# Altium schematic symbol library Diode.SchLib: 762 symbols (part 6 of 6)
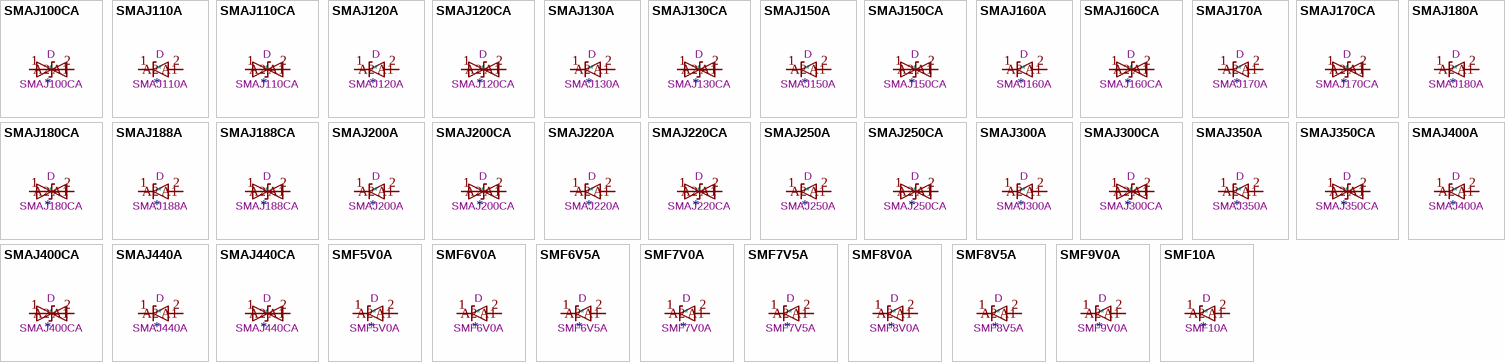
[diagram p25: symbols SMAJ100CA to SMF10A]

## SMAJ200CA
designator *  value SMAJ200CA  Reference: D
400W bidirectional Transient Voltage Suppressor, 200.0Vr, SMA(DO-214AC); ki_keywords: bidirectional diode TVS voltage suppressor; ki_fp_filters: D*SMA*; Footprint: Diode_SMD:D_SMA; Datasheet: https://www.littelfuse.com/media?resourcetype=datasheets&itemid=75e32973-b177-4ee3-a0ff-cedaf1abdb93&filename=smaj-datasheet; Description_: 400W bidirectional Transient Voltage Suppressor, 200.0Vr, SMA(DO-214AC)
pins: 1 A1, 2 A2

## SMAJ220A
designator *  value SMAJ220A  Reference: D
400W unidirectional Transient Voltage Suppressor, 220.0Vr, SMA(DO-214AC); ki_keywords: unidirectional diode TVS voltage suppressor; ki_fp_filters: D*SMA*; Footprint: Diode_SMD:D_SMA; Datasheet: https://www.littelfuse.com/media?resourcetype=datasheets&itemid=75e32973-b177-4ee3-a0ff-cedaf1abdb93&filename=smaj-datasheet; Description_: 400W unidirectional Transient Voltage Suppressor, 220.0Vr, SMA(DO-214AC)
pins: 1 A1, 2 A2

## SMAJ220CA
designator *  value SMAJ220CA  Reference: D
600W bidirectional Transient Voltage Suppressor, 220.0Vr, SMA(DO-214AC); ki_keywords: bidirectional diode TVS voltage suppressor; ki_fp_filters: D*SMA*; Footprint: Diode_SMD:D_SMA; Datasheet: https://www.littelfuse.com/media?resourcetype=datasheets&itemid=75e32973-b177-4ee3-a0ff-cedaf1abdb93&filename=smaj-datasheet; Description_: 600W bidirectional Transient Voltage Suppressor, 220.0Vr, SMA(DO-214AC)
pins: 1 A1, 2 A2

## SMAJ250A
designator *  value SMAJ250A  Reference: D
400W unidirectional Transient Voltage Suppressor, 250.0Vr, SMA(DO-214AC); ki_keywords: unidirectional diode TVS voltage suppressor; ki_fp_filters: D*SMA*; Footprint: Diode_SMD:D_SMA; Datasheet: https://www.littelfuse.com/media?resourcetype=datasheets&itemid=75e32973-b177-4ee3-a0ff-cedaf1abdb93&filename=smaj-datasheet; Description_: 400W unidirectional Transient Voltage Suppressor, 250.0Vr, SMA(DO-214AC)
pins: 1 A1, 2 A2

## SMAJ250CA
designator *  value SMAJ250CA  Reference: D
600W bidirectional Transient Voltage Suppressor, 250.0Vr, SMA(DO-214AC); ki_keywords: bidirectional diode TVS voltage suppressor; ki_fp_filters: D*SMA*; Footprint: Diode_SMD:D_SMA; Datasheet: https://www.littelfuse.com/media?resourcetype=datasheets&itemid=75e32973-b177-4ee3-a0ff-cedaf1abdb93&filename=smaj-datasheet; Description_: 600W bidirectional Transient Voltage Suppressor, 250.0Vr, SMA(DO-214AC)
pins: 1 A1, 2 A2

## SMAJ300A
designator *  value SMAJ300A  Reference: D
600W unidirectional Transient Voltage Suppressor, 300.0Vr, SMA(DO-214AC); ki_keywords: unidirectional diode TVS voltage suppressor; ki_fp_filters: D*SMA*; Footprint: Diode_SMD:D_SMA; Datasheet: https://www.littelfuse.com/media?resourcetype=datasheets&itemid=75e32973-b177-4ee3-a0ff-cedaf1abdb93&filename=smaj-datasheet; Description_: 600W unidirectional Transient Voltage Suppressor, 300.0Vr, SMA(DO-214AC)
pins: 1 A1, 2 A2

## SMAJ300CA
designator *  value SMAJ300CA  Reference: D
600W bidirectional Transient Voltage Suppressor, 300.0Vr, SMA(DO-214AC); ki_keywords: bidirectional diode TVS voltage suppressor; ki_fp_filters: D*SMA*; Footprint: Diode_SMD:D_SMA; Datasheet: https://www.littelfuse.com/media?resourcetype=datasheets&itemid=75e32973-b177-4ee3-a0ff-cedaf1abdb93&filename=smaj-datasheet; Description_: 600W bidirectional Transient Voltage Suppressor, 300.0Vr, SMA(DO-214AC)
pins: 1 A1, 2 A2

## SMAJ350A
designator *  value SMAJ350A  Reference: D
600W unidirectional Transient Voltage Suppressor, 350.0Vr, SMA(DO-214AC); ki_keywords: unidirectional diode TVS voltage suppressor; ki_fp_filters: D*SMA*; Footprint: Diode_SMD:D_SMA; Datasheet: https://www.littelfuse.com/media?resourcetype=datasheets&itemid=75e32973-b177-4ee3-a0ff-cedaf1abdb93&filename=smaj-datasheet; Description_: 600W unidirectional Transient Voltage Suppressor, 350.0Vr, SMA(DO-214AC)
pins: 1 A1, 2 A2

## SMAJ350CA
designator *  value SMAJ350CA  Reference: D
600W bidirectional Transient Voltage Suppressor, 350.0Vr, SMA(DO-214AC); ki_keywords: bidirectional diode TVS voltage suppressor; ki_fp_filters: D*SMA*; Footprint: Diode_SMD:D_SMA; Datasheet: https://www.littelfuse.com/media?resourcetype=datasheets&itemid=75e32973-b177-4ee3-a0ff-cedaf1abdb93&filename=smaj-datasheet; Description_: 600W bidirectional Transient Voltage Suppressor, 350.0Vr, SMA(DO-214AC)
pins: 1 A1, 2 A2

## SMAJ400A
designator *  value SMAJ400A  Reference: D
600W unidirectional Transient Voltage Suppressor, 400.0Vr, SMA(DO-214AC); ki_keywords: unidirectional diode TVS voltage suppressor; ki_fp_filters: D*SMA*; Footprint: Diode_SMD:D_SMA; Datasheet: https://www.littelfuse.com/media?resourcetype=datasheets&itemid=75e32973-b177-4ee3-a0ff-cedaf1abdb93&filename=smaj-datasheet; Description_: 600W unidirectional Transient Voltage Suppressor, 400.0Vr, SMA(DO-214AC)
pins: 1 A1, 2 A2

## SMAJ400CA
designator *  value SMAJ400CA  Reference: D
600W bidirectional Transient Voltage Suppressor, 400.0Vr, SMA(DO-214AC); ki_keywords: bidirectional diode TVS voltage suppressor; ki_fp_filters: D*SMA*; Footprint: Diode_SMD:D_SMA; Datasheet: https://www.littelfuse.com/media?resourcetype=datasheets&itemid=75e32973-b177-4ee3-a0ff-cedaf1abdb93&filename=smaj-datasheet; Description_: 600W bidirectional Transient Voltage Suppressor, 400.0Vr, SMA(DO-214AC)
pins: 1 A1, 2 A2

## SMAJ440A
designator *  value SMAJ440A  Reference: D
600W unidirectional Transient Voltage Suppressor, 440.0Vr, SMA(DO-214AC); ki_keywords: unidirectional diode TVS voltage suppressor; ki_fp_filters: D*SMA*; Footprint: Diode_SMD:D_SMA; Datasheet: https://www.littelfuse.com/media?resourcetype=datasheets&itemid=75e32973-b177-4ee3-a0ff-cedaf1abdb93&filename=smaj-datasheet; Description_: 600W unidirectional Transient Voltage Suppressor, 440.0Vr, SMA(DO-214AC)
pins: 1 A1, 2 A2

## SMAJ440CA
designator *  value SMAJ440CA  Reference: D
600W bidirectional Transient Voltage Suppressor, 440.0Vr, SMA(DO-214AC); ki_keywords: bidirectional diode TVS voltage suppressor; ki_fp_filters: D*SMA*; Footprint: Diode_SMD:D_SMA; Datasheet: https://www.littelfuse.com/media?resourcetype=datasheets&itemid=75e32973-b177-4ee3-a0ff-cedaf1abdb93&filename=smaj-datasheet; Description_: 600W bidirectional Transient Voltage Suppressor, 440.0Vr, SMA(DO-214AC)
pins: 1 A1, 2 A2

## SMF5V0A
designator *  value SMF5V0A  Reference: D
200W unidirectional Transil Transient Voltage Suppressor, 5Vrwm, SMF; ki_keywords: diode TVS voltage suppressor; ki_fp_filters: D*SMF*; Footprint: Diode_SMD:D_SMF; Datasheet: https://www.vishay.com/doc?85881; Description_: 200W unidirectional Transil Transient Voltage Suppressor, 5Vrwm, SMF
pins: 1 A1, 2 A2

## SMF6V0A
designator *  value SMF6V0A  Reference: D
200W unidirectional Transil Transient Voltage Suppressor, 6Vrwm, SMF; ki_keywords: diode TVS voltage suppressor; ki_fp_filters: D*SMF*; Footprint: Diode_SMD:D_SMF; Datasheet: https://www.vishay.com/doc?85881; Description_: 200W unidirectional Transil Transient Voltage Suppressor, 6Vrwm, SMF
pins: 1 A1, 2 A2

## SMF6V5A
designator *  value SMF6V5A  Reference: D
200W unidirectional Transil Transient Voltage Suppressor, 6.5Vrwm, SMF; ki_keywords: diode TVS voltage suppressor; ki_fp_filters: D*SMF*; Footprint: Diode_SMD:D_SMF; Datasheet: https://www.vishay.com/doc?85881; Description_: 200W unidirectional Transil Transient Voltage Suppressor, 6.5Vrwm, SMF
pins: 1 A1, 2 A2

## SMF7V0A
designator *  value SMF7V0A  Reference: D
200W unidirectional Transil Transient Voltage Suppressor, 7Vrwm, SMF; ki_keywords: diode TVS voltage suppressor; ki_fp_filters: D*SMF*; Footprint: Diode_SMD:D_SMF; Datasheet: https://www.vishay.com/doc?85881; Description_: 200W unidirectional Transil Transient Voltage Suppressor, 7Vrwm, SMF
pins: 1 A1, 2 A2

## SMF7V5A
designator *  value SMF7V5A  Reference: D
200W unidirectional Transil Transient Voltage Suppressor, 7.5Vrwm, SMF; ki_keywords: diode TVS voltage suppressor; ki_fp_filters: D*SMF*; Footprint: Diode_SMD:D_SMF; Datasheet: https://www.vishay.com/doc?85881; Description_: 200W unidirectional Transil Transient Voltage Suppressor, 7.5Vrwm, SMF
pins: 1 A1, 2 A2

## SMF8V0A
designator *  value SMF8V0A  Reference: D
200W unidirectional Transil Transient Voltage Suppressor, 8Vrwm, SMF; ki_keywords: diode TVS voltage suppressor; ki_fp_filters: D*SMF*; Footprint: Diode_SMD:D_SMF; Datasheet: https://www.vishay.com/doc?85881; Description_: 200W unidirectional Transil Transient Voltage Suppressor, 8Vrwm, SMF
pins: 1 A1, 2 A2

## SMF8V5A
designator *  value SMF8V5A  Reference: D
200W unidirectional Transil Transient Voltage Suppressor, 8.5Vrwm, SMF; ki_keywords: diode TVS voltage suppressor; ki_fp_filters: D*SMF*; Footprint: Diode_SMD:D_SMF; Datasheet: https://www.vishay.com/doc?85881; Description_: 200W unidirectional Transil Transient Voltage Suppressor, 8.5Vrwm, SMF
pins: 1 A1, 2 A2

## SMF9V0A
designator *  value SMF9V0A  Reference: D
200W unidirectional Transil Transient Voltage Suppressor, 9Vrwm, SMF; ki_keywords: diode TVS voltage suppressor; ki_fp_filters: D*SMF*; Footprint: Diode_SMD:D_SMF; Datasheet: https://www.vishay.com/doc?85881; Description_: 200W unidirectional Transil Transient Voltage Suppressor, 9Vrwm, SMF
pins: 1 A1, 2 A2

## SMF10A
designator *  value SMF10A  Reference: D
200W unidirectional Transil Transient Voltage Suppressor, 10Vrwm, SMF; ki_keywords: diode TVS voltage suppressor; ki_fp_filters: D*SMF*; Footprint: Diode_SMD:D_SMF; Datasheet: https://www.vishay.com/doc?85881; Description_: 200W unidirectional Transil Transient Voltage Suppressor, 10Vrwm, SMF
pins: 1 A1, 2 A2

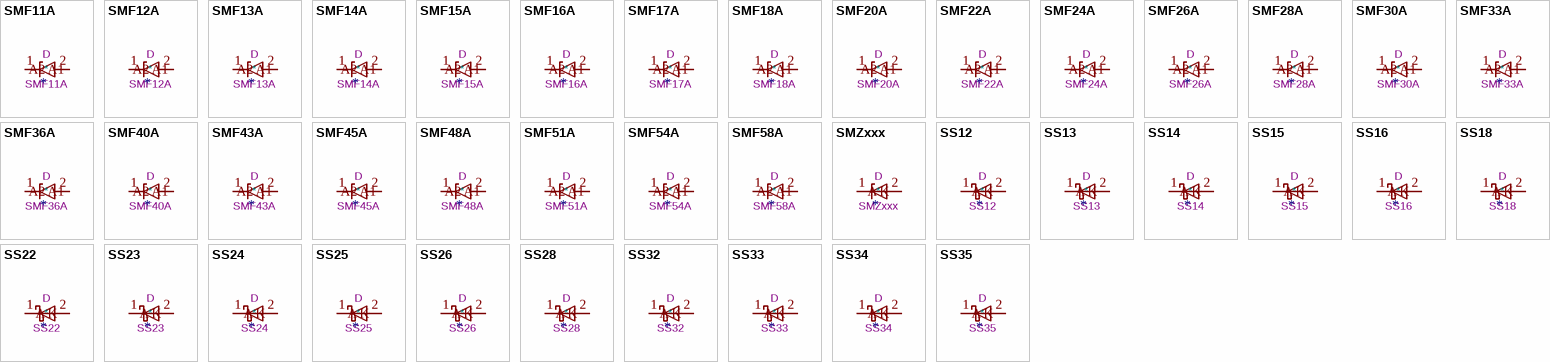
[diagram p18: symbols SMF11A to SS35]

## SMF11A
designator *  value SMF11A  Reference: D
200W unidirectional Transil Transient Voltage Suppressor, 11Vrwm, SMF; ki_keywords: diode TVS voltage suppressor; ki_fp_filters: D*SMF*; Footprint: Diode_SMD:D_SMF; Datasheet: https://www.vishay.com/doc?85881; Description_: 200W unidirectional Transil Transient Voltage Suppressor, 11Vrwm, SMF
pins: 1 A1, 2 A2

## SMF12A
designator *  value SMF12A  Reference: D
200W unidirectional Transil Transient Voltage Suppressor, 12Vrwm, SMF; ki_keywords: diode TVS voltage suppressor; ki_fp_filters: D*SMF*; Footprint: Diode_SMD:D_SMF; Datasheet: https://www.vishay.com/doc?85881; Description_: 200W unidirectional Transil Transient Voltage Suppressor, 12Vrwm, SMF
pins: 1 A1, 2 A2

## SMF13A
designator *  value SMF13A  Reference: D
200W unidirectional Transil Transient Voltage Suppressor, 13Vrwm, SMF; ki_keywords: diode TVS voltage suppressor; ki_fp_filters: D*SMF*; Footprint: Diode_SMD:D_SMF; Datasheet: https://www.vishay.com/doc?85881; Description_: 200W unidirectional Transil Transient Voltage Suppressor, 13Vrwm, SMF
pins: 1 A1, 2 A2

## SMF14A
designator *  value SMF14A  Reference: D
200W unidirectional Transil Transient Voltage Suppressor, 14Vrwm, SMF; ki_keywords: diode TVS voltage suppressor; ki_fp_filters: D*SMF*; Footprint: Diode_SMD:D_SMF; Datasheet: https://www.vishay.com/doc?85881; Description_: 200W unidirectional Transil Transient Voltage Suppressor, 14Vrwm, SMF
pins: 1 A1, 2 A2

## SMF15A
designator *  value SMF15A  Reference: D
200W unidirectional Transil Transient Voltage Suppressor, 15Vrwm, SMF; ki_keywords: diode TVS voltage suppressor; ki_fp_filters: D*SMF*; Footprint: Diode_SMD:D_SMF; Datasheet: https://www.vishay.com/doc?85881; Description_: 200W unidirectional Transil Transient Voltage Suppressor, 15Vrwm, SMF
pins: 1 A1, 2 A2

## SMF16A
designator *  value SMF16A  Reference: D
200W unidirectional Transil Transient Voltage Suppressor, 16Vrwm, SMF; ki_keywords: diode TVS voltage suppressor; ki_fp_filters: D*SMF*; Footprint: Diode_SMD:D_SMF; Datasheet: https://www.vishay.com/doc?85881; Description_: 200W unidirectional Transil Transient Voltage Suppressor, 16Vrwm, SMF
pins: 1 A1, 2 A2

## SMF17A
designator *  value SMF17A  Reference: D
200W unidirectional Transil Transient Voltage Suppressor, 17Vrwm, SMF; ki_keywords: diode TVS voltage suppressor; ki_fp_filters: D*SMF*; Footprint: Diode_SMD:D_SMF; Datasheet: https://www.vishay.com/doc?85881; Description_: 200W unidirectional Transil Transient Voltage Suppressor, 17Vrwm, SMF
pins: 1 A1, 2 A2

## SMF18A
designator *  value SMF18A  Reference: D
200W unidirectional Transil Transient Voltage Suppressor, 18Vrwm, SMF; ki_keywords: diode TVS voltage suppressor; ki_fp_filters: D*SMF*; Footprint: Diode_SMD:D_SMF; Datasheet: https://www.vishay.com/doc?85881; Description_: 200W unidirectional Transil Transient Voltage Suppressor, 18Vrwm, SMF
pins: 1 A1, 2 A2

## SMF20A
designator *  value SMF20A  Reference: D
200W unidirectional Transil Transient Voltage Suppressor, 20Vrwm, SMF; ki_keywords: diode TVS voltage suppressor; ki_fp_filters: D*SMF*; Footprint: Diode_SMD:D_SMF; Datasheet: https://www.vishay.com/doc?85881; Description_: 200W unidirectional Transil Transient Voltage Suppressor, 20Vrwm, SMF
pins: 1 A1, 2 A2

## SMF22A
designator *  value SMF22A  Reference: D
200W unidirectional Transil Transient Voltage Suppressor, 22Vrwm, SMF; ki_keywords: diode TVS voltage suppressor; ki_fp_filters: D*SMF*; Footprint: Diode_SMD:D_SMF; Datasheet: https://www.vishay.com/doc?85881; Description_: 200W unidirectional Transil Transient Voltage Suppressor, 22Vrwm, SMF
pins: 1 A1, 2 A2

## SMF24A
designator *  value SMF24A  Reference: D
200W unidirectional Transil Transient Voltage Suppressor, 24Vrwm, SMF; ki_keywords: diode TVS voltage suppressor; ki_fp_filters: D*SMF*; Footprint: Diode_SMD:D_SMF; Datasheet: https://www.vishay.com/doc?85881; Description_: 200W unidirectional Transil Transient Voltage Suppressor, 24Vrwm, SMF
pins: 1 A1, 2 A2

## SMF26A
designator *  value SMF26A  Reference: D
200W unidirectional Transil Transient Voltage Suppressor, 26Vrwm, SMF; ki_keywords: diode TVS voltage suppressor; ki_fp_filters: D*SMF*; Footprint: Diode_SMD:D_SMF; Datasheet: https://www.vishay.com/doc?85881; Description_: 200W unidirectional Transil Transient Voltage Suppressor, 26Vrwm, SMF
pins: 1 A1, 2 A2

## SMF28A
designator *  value SMF28A  Reference: D
200W unidirectional Transil Transient Voltage Suppressor, 28Vrwm, SMF; ki_keywords: diode TVS voltage suppressor; ki_fp_filters: D*SMF*; Footprint: Diode_SMD:D_SMF; Datasheet: https://www.vishay.com/doc?85881; Description_: 200W unidirectional Transil Transient Voltage Suppressor, 28Vrwm, SMF
pins: 1 A1, 2 A2

## SMF30A
designator *  value SMF30A  Reference: D
200W unidirectional Transil Transient Voltage Suppressor, 30Vrwm, SMF; ki_keywords: diode TVS voltage suppressor; ki_fp_filters: D*SMF*; Footprint: Diode_SMD:D_SMF; Datasheet: https://www.vishay.com/doc?85881; Description_: 200W unidirectional Transil Transient Voltage Suppressor, 30Vrwm, SMF
pins: 1 A1, 2 A2

## SMF33A
designator *  value SMF33A  Reference: D
200W unidirectional Transil Transient Voltage Suppressor, 33Vrwm, SMF; ki_keywords: diode TVS voltage suppressor; ki_fp_filters: D*SMF*; Footprint: Diode_SMD:D_SMF; Datasheet: https://www.vishay.com/doc?85881; Description_: 200W unidirectional Transil Transient Voltage Suppressor, 33Vrwm, SMF
pins: 1 A1, 2 A2

## SMF36A
designator *  value SMF36A  Reference: D
200W unidirectional Transil Transient Voltage Suppressor, 36Vrwm, SMF; ki_keywords: diode TVS voltage suppressor; ki_fp_filters: D*SMF*; Footprint: Diode_SMD:D_SMF; Datasheet: https://www.vishay.com/doc?85881; Description_: 200W unidirectional Transil Transient Voltage Suppressor, 36Vrwm, SMF
pins: 1 A1, 2 A2

## SMF40A
designator *  value SMF40A  Reference: D
200W unidirectional Transil Transient Voltage Suppressor, 40Vrwm, SMF; ki_keywords: diode TVS voltage suppressor; ki_fp_filters: D*SMF*; Footprint: Diode_SMD:D_SMF; Datasheet: https://www.vishay.com/doc?85881; Description_: 200W unidirectional Transil Transient Voltage Suppressor, 40Vrwm, SMF
pins: 1 A1, 2 A2

## SMF43A
designator *  value SMF43A  Reference: D
200W unidirectional Transil Transient Voltage Suppressor, 43Vrwm, SMF; ki_keywords: diode TVS voltage suppressor; ki_fp_filters: D*SMF*; Footprint: Diode_SMD:D_SMF; Datasheet: https://www.vishay.com/doc?85881; Description_: 200W unidirectional Transil Transient Voltage Suppressor, 43Vrwm, SMF
pins: 1 A1, 2 A2

## SMF45A
designator *  value SMF45A  Reference: D
200W unidirectional Transil Transient Voltage Suppressor, 45Vrwm, SMF; ki_keywords: diode TVS voltage suppressor; ki_fp_filters: D*SMF*; Footprint: Diode_SMD:D_SMF; Datasheet: https://www.vishay.com/doc?85881; Description_: 200W unidirectional Transil Transient Voltage Suppressor, 45Vrwm, SMF
pins: 1 A1, 2 A2

## SMF48A
designator *  value SMF48A  Reference: D
200W unidirectional Transil Transient Voltage Suppressor, 48Vrwm, SMF; ki_keywords: diode TVS voltage suppressor; ki_fp_filters: D*SMF*; Footprint: Diode_SMD:D_SMF; Datasheet: https://www.vishay.com/doc?85881; Description_: 200W unidirectional Transil Transient Voltage Suppressor, 48Vrwm, SMF
pins: 1 A1, 2 A2

## SMF51A
designator *  value SMF51A  Reference: D
200W unidirectional Transil Transient Voltage Suppressor, 51Vrwm, SMF; ki_keywords: diode TVS voltage suppressor; ki_fp_filters: D*SMF*; Footprint: Diode_SMD:D_SMF; Datasheet: https://www.vishay.com/doc?85881; Description_: 200W unidirectional Transil Transient Voltage Suppressor, 51Vrwm, SMF
pins: 1 A1, 2 A2

## SMF54A
designator *  value SMF54A  Reference: D
200W unidirectional Transil Transient Voltage Suppressor, 54Vrwm, SMF; ki_keywords: diode TVS voltage suppressor; ki_fp_filters: D*SMF*; Footprint: Diode_SMD:D_SMF; Datasheet: https://www.vishay.com/doc?85881; Description_: 200W unidirectional Transil Transient Voltage Suppressor, 54Vrwm, SMF
pins: 1 A1, 2 A2

## SMF58A
designator *  value SMF58A  Reference: D
200W unidirectional Transil Transient Voltage Suppressor, 58Vrwm, SMF; ki_keywords: diode TVS voltage suppressor; ki_fp_filters: D*SMF*; Footprint: Diode_SMD:D_SMF; Datasheet: https://www.vishay.com/doc?85881; Description_: 200W unidirectional Transil Transient Voltage Suppressor, 58Vrwm, SMF
pins: 1 A1, 2 A2

## SMZxxx
designator *  value SMZxxx  Reference: D
2000mW Zener Diode, MELF; ki_fp_filters: D*MELF*; Footprint: Diode_SMD:D_MELF; Datasheet: https://diotec.com/tl_files/diotec/files/pdf/datasheets/smz1.pdf; Description_: 2000mW Zener Diode, MELF; ki_keywords: zener diode
pins: 1 K, 2 A

## SS12
designator *  value SS12  Reference: D
20V 1A Schottky Diode, SMA; ki_keywords: diode Schottky; ki_fp_filters: D*SMA*; Footprint: Diode_SMD:D_SMA; Datasheet: https://www.vishay.com/docs/88746/ss12.pdf; Description_: 20V 1A Schottky Diode, SMA
pins: 1 K, 2 A

## SS13
designator *  value SS13  Reference: D
30V 1A Schottky Diode, SMA; ki_keywords: diode Schottky; ki_fp_filters: D*SMA*; Footprint: Diode_SMD:D_SMA; Datasheet: https://www.vishay.com/docs/88746/ss12.pdf; Description_: 30V 1A Schottky Diode, SMA
pins: 1 K, 2 A

## SS14
designator *  value SS14  Reference: D
40V 1A Schottky Diode, SMA; ki_keywords: diode Schottky; ki_fp_filters: D*SMA*; Footprint: Diode_SMD:D_SMA; Datasheet: https://www.vishay.com/docs/88746/ss12.pdf; Description_: 40V 1A Schottky Diode, SMA
pins: 1 K, 2 A

## SS15
designator *  value SS15  Reference: D
50V 1A Schottky Diode, SMA; ki_keywords: diode Schottky; ki_fp_filters: D*SMA*; Footprint: Diode_SMD:D_SMA; Datasheet: https://www.vishay.com/docs/88746/ss12.pdf; Description_: 50V 1A Schottky Diode, SMA
pins: 1 K, 2 A

## SS16
designator *  value SS16  Reference: D
60V 1A Schottky Diode, SMA; ki_keywords: diode Schottky; ki_fp_filters: D*SMA*; Footprint: Diode_SMD:D_SMA; Datasheet: https://www.vishay.com/docs/88746/ss12.pdf; Description_: 60V 1A Schottky Diode, SMA
pins: 1 K, 2 A

## SS18
designator *  value SS18  Reference: D
80V 1A Schottky Diode, SMA; ki_keywords: diode Schottky; ki_fp_filters: D*SMA*; Footprint: Diode_SMD:D_SMA; Datasheet: https://www.smc-diodes.com/propdf/SS12-SS110%20N0229%20REV.C.pdf; Description_: 80V 1A Schottky Diode, SMA
pins: 1 K, 2 A

## SS22
designator *  value SS22  Reference: D
20V 2A Schottky Diode, SMA; ki_keywords: diode Schottky; ki_fp_filters: D*SMA*; Footprint: Diode_SMD:D_SMA; Datasheet: https://www.vishay.com/docs/88748/ss22.pdf; Description_: 20V 2A Schottky Diode, SMA
pins: 1 K, 2 A

## SS23
designator *  value SS23  Reference: D
30V 2A Schottky Diode, SMA; ki_keywords: diode Schottky; ki_fp_filters: D*SMA*; Footprint: Diode_SMD:D_SMA; Datasheet: https://www.vishay.com/docs/88748/ss22.pdf; Description_: 30V 2A Schottky Diode, SMA
pins: 1 K, 2 A

## SS24
designator *  value SS24  Reference: D
40V 2A Schottky Diode, SMA; ki_keywords: diode Schottky; ki_fp_filters: D*SMA*; Footprint: Diode_SMD:D_SMA; Datasheet: https://www.vishay.com/docs/88748/ss22.pdf; Description_: 40V 2A Schottky Diode, SMA
pins: 1 K, 2 A

## SS25
designator *  value SS25  Reference: D
50V 2A Schottky Diode, SMA; ki_keywords: diode Schottky; ki_fp_filters: D*SMA*; Footprint: Diode_SMD:D_SMA; Datasheet: https://www.vishay.com/docs/88748/ss22.pdf; Description_: 50V 2A Schottky Diode, SMA
pins: 1 K, 2 A

## SS26
designator *  value SS26  Reference: D
60V 2A Schottky Diode, SMA; ki_keywords: diode Schottky; ki_fp_filters: D*SMA*; Footprint: Diode_SMD:D_SMA; Datasheet: https://www.vishay.com/docs/88748/ss22.pdf; Description_: 60V 2A Schottky Diode, SMA
pins: 1 K, 2 A

## SS28
designator *  value SS28  Reference: D
80V 2A Schottky Diode, SMA; ki_keywords: diode Schottky; ki_fp_filters: D*SMA*; Footprint: Diode_SMD:D_SMA; Datasheet: https://www.wontop.com/uploadfiles/56/sort_excel/pdf/ss22.pdf; Description_: 80V 2A Schottky Diode, SMA
pins: 1 K, 2 A

## SS32
designator *  value SS32  Reference: D
20V 3A Schottky Diode, SMA; ki_keywords: diode Schottky; ki_fp_filters: D*SMA*; Footprint: Diode_SMD:D_SMA; Datasheet: https://www.vishay.com/docs/88751/ss32.pdf; Description_: 20V 3A Schottky Diode, SMA
pins: 1 K, 2 A

## SS33
designator *  value SS33  Reference: D
30V 3A Schottky Diode, SMA; ki_keywords: diode Schottky; ki_fp_filters: D*SMA*; Footprint: Diode_SMD:D_SMA; Datasheet: https://www.vishay.com/docs/88751/ss32.pdf; Description_: 30V 3A Schottky Diode, SMA
pins: 1 K, 2 A

## SS34
designator *  value SS34  Reference: D
40V 3A Schottky Diode, SMA; ki_keywords: diode Schottky; ki_fp_filters: D*SMA*; Footprint: Diode_SMD:D_SMA; Datasheet: https://www.vishay.com/docs/88751/ss32.pdf; Description_: 40V 3A Schottky Diode, SMA
pins: 1 K, 2 A

## SS35
designator *  value SS35  Reference: D
50V 3A Schottky Diode, SMA; ki_keywords: diode Schottky; ki_fp_filters: D*SMA*; Footprint: Diode_SMD:D_SMA; Datasheet: https://www.vishay.com/docs/88751/ss32.pdf; Description_: 50V 3A Schottky Diode, SMA
pins: 1 K, 2 A

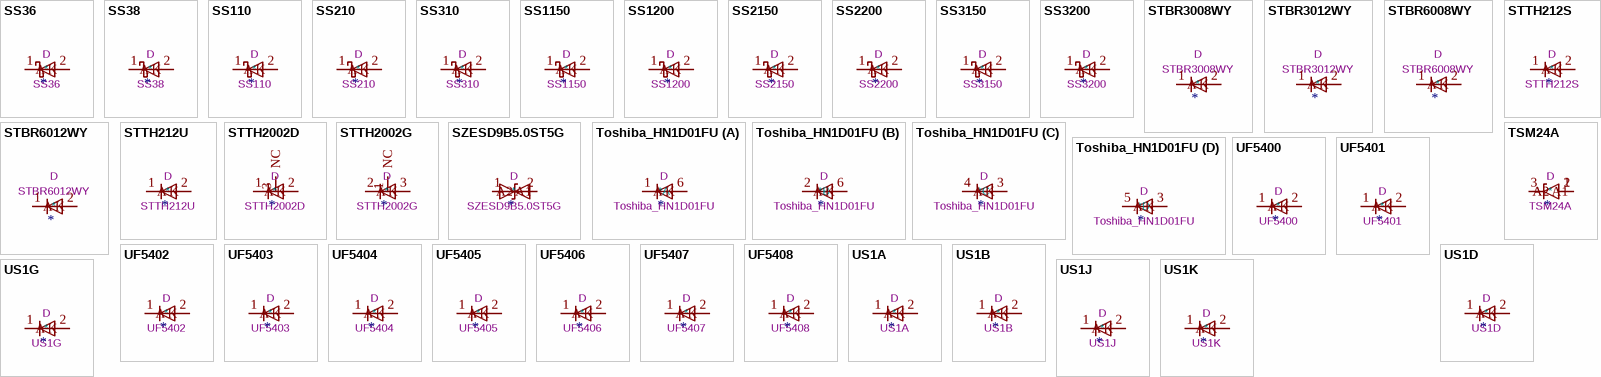
[diagram p19: symbols SS36 to US1K]

## SS36
designator *  value SS36  Reference: D
60V 3A Schottky Diode, SMA; ki_keywords: diode Schottky; ki_fp_filters: D*SMA*; Footprint: Diode_SMD:D_SMA; Datasheet: https://www.vishay.com/docs/88751/ss32.pdf; Description_: 60V 3A Schottky Diode, SMA
pins: 1 K, 2 A

## SS38
designator *  value SS38  Reference: D
80V 3A Schottky Diode, SMA; ki_keywords: diode Schottky; ki_fp_filters: D*SMA*; Footprint: Diode_SMD:D_SMA; Datasheet: https://www.microdiode.com/uploadfiles//PDF/SS32-THRU-SS3200-SMA.pdf; Description_: 80V 3A Schottky Diode, SMA
pins: 1 K, 2 A

## SS110
designator *  value SS110  Reference: D
100V 1A Schottky Diode, SMA; ki_keywords: diode Schottky; ki_fp_filters: D*SMA*; Footprint: Diode_SMD:D_SMA; Datasheet: https://www.smc-diodes.com/propdf/SS12-SS110%20N0229%20REV.C.pdf; Description_: 100V 1A Schottky Diode, SMA
pins: 1 K, 2 A

## SS210
designator *  value SS210  Reference: D
100V 2A Schottky Diode, SMA; ki_keywords: diode Schottky; ki_fp_filters: D*SMA*; Footprint: Diode_SMD:D_SMA; Datasheet: https://www.wontop.com/uploadfiles/56/sort_excel/pdf/ss22.pdf; Description_: 100V 2A Schottky Diode, SMA
pins: 1 K, 2 A

## SS310
designator *  value SS310  Reference: D
100V 3A Schottky Diode, SMA; ki_keywords: diode Schottky; ki_fp_filters: D*SMA*; Footprint: Diode_SMD:D_SMA; Datasheet: https://www.microdiode.com/uploadfiles//PDF/SS32-THRU-SS3200-SMA.pdf; Description_: 100V 3A Schottky Diode, SMA
pins: 1 K, 2 A

## SS1150
designator *  value SS1150  Reference: D
150V 1A Schottky Diode, SMA; ki_keywords: diode Schottky; ki_fp_filters: D*SMA*; Footprint: Diode_SMD:D_SMA; Datasheet: https://www.wontop.com/uploadfiles/56/sort_excel/pdf/ss1150.pdf; Description_: 150V 1A Schottky Diode, SMA
pins: 1 K, 2 A

## SS1200
designator *  value SS1200  Reference: D
200V 1A Schottky Diode, SMA; ki_keywords: diode Schottky; ki_fp_filters: D*SMA*; Footprint: Diode_SMD:D_SMA; Datasheet: https://www.wontop.com/uploadfiles/56/sort_excel/pdf/ss1150.pdf; Description_: 200V 1A Schottky Diode, SMA
pins: 1 K, 2 A

## SS2150
designator *  value SS2150  Reference: D
150V 2A Schottky Diode, SMA; ki_keywords: diode Schottky; ki_fp_filters: D*SMA*; Footprint: Diode_SMD:D_SMA; Datasheet: https://www.microdiode.com/uploadfiles//PDF/SS22-THRU-SS2200-SMA.pdf; Description_: 150V 2A Schottky Diode, SMA
pins: 1 K, 2 A

## SS2200
designator *  value SS2200  Reference: D
200V 2A Schottky Diode, SMA; ki_keywords: diode Schottky; ki_fp_filters: D*SMA*; Footprint: Diode_SMD:D_SMA; Datasheet: https://www.microdiode.com/uploadfiles//PDF/SS22-THRU-SS2200-SMA.pdf; Description_: 200V 2A Schottky Diode, SMA
pins: 1 K, 2 A

## SS3150
designator *  value SS3150  Reference: D
150V 3A Schottky Diode, SMA; ki_keywords: diode Schottky; ki_fp_filters: D*SMA*; Footprint: Diode_SMD:D_SMA; Datasheet: https://www.microdiode.com/uploadfiles//PDF/SS32-THRU-SS3200-SMA.pdf; Description_: 150V 3A Schottky Diode, SMA
pins: 1 K, 2 A

## SS3200
designator *  value SS3200  Reference: D
200V 3A Schottky Diode, SMA; ki_keywords: diode Schottky; ki_fp_filters: D*SMA*; Footprint: Diode_SMD:D_SMA; Datasheet: https://www.microdiode.com/uploadfiles//PDF/SS32-THRU-SS3200-SMA.pdf; Description_: 200V 3A Schottky Diode, SMA
pins: 1 K, 2 A

## STBR3008WY
designator *  value STBR3008WY  Reference: D
800V, 30A, General Purpose Rectifier Diode, DO-247; Sim.Pins: 1=K 2=A; ki_keywords: AEC-Q101; ki_fp_filters: D*DO*247*; Footprint: Diode_THT:D_DO-247_Vertical; Datasheet: https://www.st.com/resource/en/datasheet/stbr3008-y.pdf; Description_: 800V, 30A, General Purpose Rectifier Diode, DO-247; Sim.Device: D
pins: 1 K, 2 A

## STBR3012WY
designator *  value STBR3012WY  Reference: D
1200V, 30A, General Purpose Rectifier Diode, DO-247; Sim.Pins: 1=K 2=A; ki_keywords: AEC-Q101; ki_fp_filters: D*DO*247*; Footprint: Diode_THT:D_DO-247_Vertical; Datasheet: https://www.st.com/resource/en/datasheet/stbr3012-y.pdf; Description_: 1200V, 30A, General Purpose Rectifier Diode, DO-247; Sim.Device: D
pins: 1 K, 2 A

## STBR6008WY
designator *  value STBR6008WY  Reference: D
800V, 60A, General Purpose Rectifier Diode, DO-247; Sim.Pins: 1=K 2=A; ki_keywords: AEC-Q101; ki_fp_filters: D*DO*247*; Footprint: Diode_THT:D_DO-247_Vertical; Datasheet: https://www.st.com/resource/en/datasheet/stbr6008-y.pdf; Description_: 800V, 60A, General Purpose Rectifier Diode, DO-247; Sim.Device: D
pins: 1 K, 2 A

## STBR6012WY
designator *  value STBR6012WY  Reference: D
1200V, 60A, General Purpose Rectifier Diode, DO-247; Sim.Pins: 1=K 2=A; ki_keywords: AEC-Q101; ki_fp_filters: D*DO*247*; Footprint: Diode_THT:D_DO-247_Vertical; Datasheet: https://www.st.com/resource/en/datasheet/stbr6012-y.pdf; Description_: 1200V, 60A, General Purpose Rectifier Diode, DO-247; Sim.Device: D
pins: 1 K, 2 A

## STTH212S
designator *  value STTH212S  Reference: D
1200V 2A High Voltage Ultrafast Diode, SMC; ki_fp_filters: D?SMC*; Footprint: Diode_SMD:D_SMC; Datasheet: https://www.st.com/resource/en/datasheet/stth212.pdf; Description_: 1200V 2A High Voltage Ultrafast Diode, SMC; ki_keywords: diode
pins: 1 K, 2 A

## STTH212U
designator *  value STTH212U  Reference: D
1200V 2A High Voltage Ultrafast Diode, SMB; Sim.Pins: 1=K 2=A; ki_fp_filters: *D?SMB*; Footprint: Diode_SMD:D_SMB; Datasheet: https://www.st.com/resource/en/datasheet/stth212.pdf; Description_: 1200V 2A High Voltage Ultrafast Diode, SMB; Sim.Device: D; ki_keywords: diode
pins: 1 K, 2 A

## STTH2002D
designator *  value STTH2002D  Reference: D
200V 20A Ultrafast Recovery Diode, TO-220; ki_fp_filters: TO?220*2*; Footprint: Package_TO_SOT_THT:TO-220-2_Vertical; Datasheet: https://www.st.com/resource/en/datasheet/stth2002.pdf; Description_: 200V 20A Ultrafast Recovery Diode, TO-220; ki_keywords: diode
pins: 1 K, 2 A, 3 NC

## STTH2002G
designator *  value STTH2002G  Reference: D
200V 20A Ultrafast Recovery Diode, TO-263; ki_fp_filters: TO?263*; Footprint: Package_TO_SOT_SMD:TO-263-2; Datasheet: https://www.st.com/resource/en/datasheet/stth2002.pdf; Description_: 200V 20A Ultrafast Recovery Diode, TO-263; ki_keywords: diode
pins: 1 NC, 2 K, 3 A

## SZESD9B5.0ST5G
designator *  value SZESD9B5.0ST5G  Reference: D
ESD protection diode, 5.0Vrwm, SOD-923; ki_keywords: diode TVS ESD; ki_fp_filters: D*SOD?923*; Footprint: Diode_SMD:D_SOD-923; Datasheet: https://www.onsemi.com/pub/Collateral/ESD9B-D.PDF; Description_: ESD protection diode, 5.0Vrwm, SOD-923
pins: 1 A1, 2 A2

## Toshiba_HN1D01FU
designator *  value Toshiba_HN1D01FU  Reference: D
Ultra High Speed Switching Diode Array 2 pair Com A; ki_fp_filters: SOT?363*; Footprint: Package_TO_SOT_SMD:SOT-363_SC-70-6; Datasheet: http://www.toshiba.com/taec/components2/Datasheet_Sync/200901/DST_HN1D01FU-TDE_EN_1882.pdf; Description_: Ultra High Speed Switching Diode Array 2 pair Com A; ki_keywords: diode
part A pins: 1 K, 6 A
part B pins: 2 K, 6 A
part C pins: 3 A, 4 K
part D pins: 3 A, 5 K

## TSM24A
designator *  value TSM24A  Reference: D
2800W unidirectional Transient Voltage Suppressor, 24Vrwm, 30kV Air gap & contact, SOT-23; ki_keywords: diode TVS voltage suppressor ESD Texas; ki_fp_filters: SOT?23*; Footprint: Package_TO_SOT_SMD:SOT-23; Datasheet: https://www.ti.com/lit/ds/symlink/tsm24a.pdf; Description_: 2800W unidirectional Transient Voltage Suppressor, 24Vrwm, 30kV Air gap & contact, SOT-23
pins: 1 A2, 2 A2, 3 A1

## UF5400
designator *  value UF5400  Reference: D
50V 3A Soft Recovery Ultrafast Rectifier Diode, DO-201AD; Sim.Pins: 1=K 2=A; ki_fp_filters: D*DO?201AD*; Footprint: Diode_THT:D_DO-201AD_P15.24mm_Horizontal; Datasheet: http://www.vishay.com/docs/88756/uf5400.pdf; Description_: 50V 3A Soft Recovery Ultrafast Rectifier Diode, DO-201AD; Sim.Device: D; ki_keywords: diode
pins: 1 K, 2 A

## UF5401
designator *  value UF5401  Reference: D
100V 3A Soft Recovery Ultrafast Rectifier Diode, DO-201AD; Sim.Pins: 1=K 2=A; ki_fp_filters: D*DO?201AD*; Footprint: Diode_THT:D_DO-201AD_P15.24mm_Horizontal; Datasheet: http://www.vishay.com/docs/88756/uf5400.pdf; Description_: 100V 3A Soft Recovery Ultrafast Rectifier Diode, DO-201AD; Sim.Device: D; ki_keywords: diode
pins: 1 K, 2 A

## UF5402
designator *  value UF5402  Reference: D
200V 3A Soft Recovery Ultrafast Rectifier Diode, DO-201AD; Sim.Pins: 1=K 2=A; ki_fp_filters: D*DO?201AD*; Footprint: Diode_THT:D_DO-201AD_P15.24mm_Horizontal; Datasheet: http://www.vishay.com/docs/88756/uf5400.pdf; Description_: 200V 3A Soft Recovery Ultrafast Rectifier Diode, DO-201AD; Sim.Device: D; ki_keywords: diode
pins: 1 K, 2 A

## UF5403
designator *  value UF5403  Reference: D
300V 3A Soft Recovery Ultrafast Rectifier Diode, DO-201AD; Sim.Pins: 1=K 2=A; ki_fp_filters: D*DO?201AD*; Footprint: Diode_THT:D_DO-201AD_P15.24mm_Horizontal; Datasheet: http://www.vishay.com/docs/88756/uf5400.pdf; Description_: 300V 3A Soft Recovery Ultrafast Rectifier Diode, DO-201AD; Sim.Device: D; ki_keywords: diode
pins: 1 K, 2 A

## UF5404
designator *  value UF5404  Reference: D
400V 3A Soft Recovery Ultrafast Rectifier Diode, DO-201AD; Sim.Pins: 1=K 2=A; ki_fp_filters: D*DO?201AD*; Footprint: Diode_THT:D_DO-201AD_P15.24mm_Horizontal; Datasheet: http://www.vishay.com/docs/88756/uf5400.pdf; Description_: 400V 3A Soft Recovery Ultrafast Rectifier Diode, DO-201AD; Sim.Device: D; ki_keywords: diode
pins: 1 K, 2 A

## UF5405
designator *  value UF5405  Reference: D
500V 3A Soft Recovery Ultrafast Rectifier Diode, DO-201AD; Sim.Pins: 1=K 2=A; ki_fp_filters: D*DO?201AD*; Footprint: Diode_THT:D_DO-201AD_P15.24mm_Horizontal; Datasheet: http://www.vishay.com/docs/88756/uf5400.pdf; Description_: 500V 3A Soft Recovery Ultrafast Rectifier Diode, DO-201AD; Sim.Device: D; ki_keywords: diode
pins: 1 K, 2 A

## UF5406
designator *  value UF5406  Reference: D
600V 3A Soft Recovery Ultrafast Rectifier Diode, DO-201AD; Sim.Pins: 1=K 2=A; ki_fp_filters: D*DO?201AD*; Footprint: Diode_THT:D_DO-201AD_P15.24mm_Horizontal; Datasheet: http://www.vishay.com/docs/88756/uf5400.pdf; Description_: 600V 3A Soft Recovery Ultrafast Rectifier Diode, DO-201AD; Sim.Device: D; ki_keywords: diode
pins: 1 K, 2 A

## UF5407
designator *  value UF5407  Reference: D
800V 3A Soft Recovery Ultrafast Rectifier Diode, DO-201AD; Sim.Pins: 1=K 2=A; ki_fp_filters: D*DO?201AD*; Footprint: Diode_THT:D_DO-201AD_P15.24mm_Horizontal; Datasheet: http://www.vishay.com/docs/88756/uf5400.pdf; Description_: 800V 3A Soft Recovery Ultrafast Rectifier Diode, DO-201AD; Sim.Device: D; ki_keywords: diode
pins: 1 K, 2 A

## UF5408
designator *  value UF5408  Reference: D
1000V 3A Soft Recovery Ultrafast Rectifier Diode, DO-201AD; Sim.Pins: 1=K 2=A; ki_fp_filters: D*DO?201AD*; Footprint: Diode_THT:D_DO-201AD_P15.24mm_Horizontal; Datasheet: http://www.vishay.com/docs/88756/uf5400.pdf; Description_: 1000V 3A Soft Recovery Ultrafast Rectifier Diode, DO-201AD; Sim.Device: D; ki_keywords: diode
pins: 1 K, 2 A

## US1A
designator *  value US1A  Reference: D
50V, 1A, General Purpose Rectifier Diode, SMA(DO-214AC); Sim.Pins: 1=K 2=A; ki_keywords: Ultra Fast; ki_fp_filters: D*SMA*; Footprint: Diode_SMD:D_SMA; Datasheet: https://www.diodes.com/assets/Datasheets/ds16008.pdf; Description_: 50V, 1A, General Purpose Rectifier Diode, SMA(DO-214AC); Sim.Device: D
pins: 1 K, 2 A

## US1B
designator *  value US1B  Reference: D
100V, 1A, General Purpose Rectifier Diode, SMA(DO-214AC); Sim.Pins: 1=K 2=A; ki_keywords: Ultra Fast; ki_fp_filters: D*SMA*; Footprint: Diode_SMD:D_SMA; Datasheet: https://www.diodes.com/assets/Datasheets/ds16008.pdf; Description_: 100V, 1A, General Purpose Rectifier Diode, SMA(DO-214AC); Sim.Device: D
pins: 1 K, 2 A

## US1D
designator *  value US1D  Reference: D
200V, 1A, General Purpose Rectifier Diode, SMA(DO-214AC); Sim.Pins: 1=K 2=A; ki_keywords: Ultra Fast; ki_fp_filters: D*SMA*; Footprint: Diode_SMD:D_SMA; Datasheet: https://www.diodes.com/assets/Datasheets/ds16008.pdf; Description_: 200V, 1A, General Purpose Rectifier Diode, SMA(DO-214AC); Sim.Device: D
pins: 1 K, 2 A

## US1G
designator *  value US1G  Reference: D
400V, 1A, General Purpose Rectifier Diode, SMA(DO-214AC); Sim.Pins: 1=K 2=A; ki_keywords: Ultra Fast; ki_fp_filters: D*SMA*; Footprint: Diode_SMD:D_SMA; Datasheet: https://www.diodes.com/assets/Datasheets/ds16008.pdf; Description_: 400V, 1A, General Purpose Rectifier Diode, SMA(DO-214AC); Sim.Device: D
pins: 1 K, 2 A

## US1J
designator *  value US1J  Reference: D
600V, 1A, General Purpose Rectifier Diode, SMA(DO-214AC); Sim.Pins: 1=K 2=A; ki_keywords: Ultra Fast; ki_fp_filters: D*SMA*; Footprint: Diode_SMD:D_SMA; Datasheet: https://www.diodes.com/assets/Datasheets/ds16008.pdf; Description_: 600V, 1A, General Purpose Rectifier Diode, SMA(DO-214AC); Sim.Device: D
pins: 1 K, 2 A

## US1K
designator *  value US1K  Reference: D
800V, 1A, General Purpose Rectifier Diode, SMA(DO-214AC); Sim.Pins: 1=K 2=A; ki_keywords: Ultra Fast; ki_fp_filters: D*SMA*; Footprint: Diode_SMD:D_SMA; Datasheet: https://www.diodes.com/assets/Datasheets/ds16008.pdf; Description_: 800V, 1A, General Purpose Rectifier Diode, SMA(DO-214AC); Sim.Device: D
pins: 1 K, 2 A

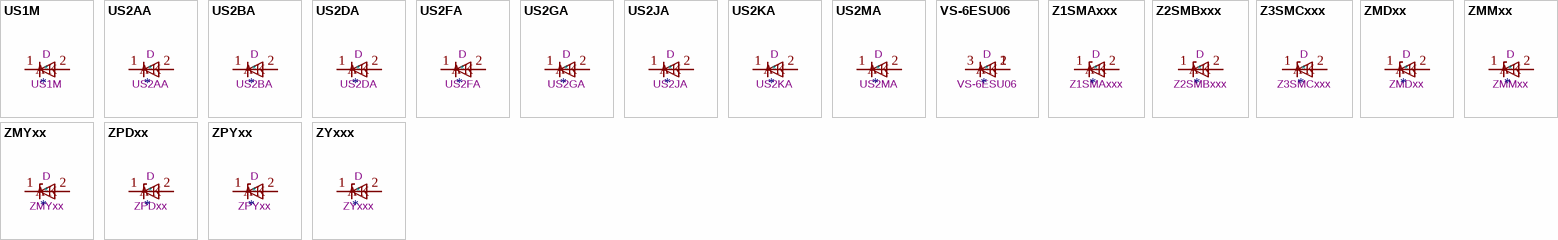
[diagram p20: symbols US1M to ZYxxx]

## US1M
designator *  value US1M  Reference: D
1000V, 1A, General Purpose Rectifier Diode, SMA(DO-214AC); Sim.Pins: 1=K 2=A; ki_keywords: Ultra Fast; ki_fp_filters: D*SMA*; Footprint: Diode_SMD:D_SMA; Datasheet: https://www.diodes.com/assets/Datasheets/ds16008.pdf; Description_: 1000V, 1A, General Purpose Rectifier Diode, SMA(DO-214AC); Sim.Device: D
pins: 1 K, 2 A

## US2AA
designator *  value US2AA  Reference: D
50V, 1.5A, General Purpose Rectifier Diode, SMA(DO-214AC); Sim.Pins: 1=K 2=A; ki_keywords: Super Fast; ki_fp_filters: D*SMA*; Footprint: Diode_SMD:D_SMA; Datasheet: https://www.onsemi.com/pub/Collateral/US2AA-D.PDF; Description_: 50V, 1.5A, General Purpose Rectifier Diode, SMA(DO-214AC); Sim.Device: D
pins: 1 K, 2 A

## US2BA
designator *  value US2BA  Reference: D
100V, 1.5A, General Purpose Rectifier Diode, SMA(DO-214AC); Sim.Pins: 1=K 2=A; ki_keywords: Super Fast; ki_fp_filters: D*SMA*; Footprint: Diode_SMD:D_SMA; Datasheet: https://www.onsemi.com/pub/Collateral/US2AA-D.PDF; Description_: 100V, 1.5A, General Purpose Rectifier Diode, SMA(DO-214AC); Sim.Device: D
pins: 1 K, 2 A

## US2DA
designator *  value US2DA  Reference: D
200V, 1.5A, General Purpose Rectifier Diode, SMA(DO-214AC); Sim.Pins: 1=K 2=A; ki_keywords: Super Fast; ki_fp_filters: D*SMA*; Footprint: Diode_SMD:D_SMA; Datasheet: https://www.onsemi.com/pub/Collateral/US2AA-D.PDF; Description_: 200V, 1.5A, General Purpose Rectifier Diode, SMA(DO-214AC); Sim.Device: D
pins: 1 K, 2 A

## US2FA
designator *  value US2FA  Reference: D
300V, 1.5A, General Purpose Rectifier Diode, SMA(DO-214AC); Sim.Pins: 1=K 2=A; ki_keywords: Super Fast; ki_fp_filters: D*SMA*; Footprint: Diode_SMD:D_SMA; Datasheet: https://www.onsemi.com/pub/Collateral/US2AA-D.PDF; Description_: 300V, 1.5A, General Purpose Rectifier Diode, SMA(DO-214AC); Sim.Device: D
pins: 1 K, 2 A

## US2GA
designator *  value US2GA  Reference: D
400V, 1.5A, General Purpose Rectifier Diode, SMA(DO-214AC); Sim.Pins: 1=K 2=A; ki_keywords: Super Fast; ki_fp_filters: D*SMA*; Footprint: Diode_SMD:D_SMA; Datasheet: https://www.onsemi.com/pub/Collateral/US2AA-D.PDF; Description_: 400V, 1.5A, General Purpose Rectifier Diode, SMA(DO-214AC); Sim.Device: D
pins: 1 K, 2 A

## US2JA
designator *  value US2JA  Reference: D
600V, 1.5A, General Purpose Rectifier Diode, SMA(DO-214AC); Sim.Pins: 1=K 2=A; ki_keywords: Super Fast; ki_fp_filters: D*SMA*; Footprint: Diode_SMD:D_SMA; Datasheet: https://www.onsemi.com/pub/Collateral/US2AA-D.PDF; Description_: 600V, 1.5A, General Purpose Rectifier Diode, SMA(DO-214AC); Sim.Device: D
pins: 1 K, 2 A

## US2KA
designator *  value US2KA  Reference: D
800V, 1.5A, General Purpose Rectifier Diode, SMA(DO-214AC); Sim.Pins: 1=K 2=A; ki_keywords: Super Fast; ki_fp_filters: D*SMA*; Footprint: Diode_SMD:D_SMA; Datasheet: https://www.onsemi.com/pub/Collateral/US2AA-D.PDF; Description_: 800V, 1.5A, General Purpose Rectifier Diode, SMA(DO-214AC); Sim.Device: D
pins: 1 K, 2 A

## US2MA
designator *  value US2MA  Reference: D
1000V, 1.5A, General Purpose Rectifier Diode, SMA(DO-214AC); Sim.Pins: 1=K 2=A; ki_keywords: Super Fast; ki_fp_filters: D*SMA*; Footprint: Diode_SMD:D_SMA; Datasheet: https://www.onsemi.com/pub/Collateral/US2AA-D.PDF; Description_: 1000V, 1.5A, General Purpose Rectifier Diode, SMA(DO-214AC); Sim.Device: D
pins: 1 K, 2 A

## VS-6ESU06
designator *  value VS-6ESU06  Reference: D
600V 6.0A Ultrafast Rectifier, TO-277A; ki_keywords: diode fred; ki_fp_filters: TO?277A*; Footprint: Package_TO_SOT_SMD:TO-277A; Datasheet: https://www.vishay.com/docs/94987/vs-6esu06hm3.pdf; Description_: 600V 6.0A Ultrafast Rectifier, TO-277A
pins: 1 A, 2 A, 3 K

## Z1SMAxxx
designator *  value Z1SMAxxx  Reference: D
1000mW Zener Diode, SMA(DO-214AC); ki_fp_filters: D?SMA*; Footprint: Diode_SMD:D_SMA; Datasheet: https://diotec.com/tl_files/diotec/files/pdf/datasheets/z1sma1.pdf; Description_: 1000mW Zener Diode, SMA(DO-214AC); ki_keywords: zener diode
pins: 1 K, 2 A

## Z2SMBxxx
designator *  value Z2SMBxxx  Reference: D
2000mW Zener Diode, SMB(DO-214AA); ki_fp_filters: D?SMB*; Footprint: Diode_SMD:D_SMB; Datasheet: https://diotec.com/tl_files/diotec/files/pdf/datasheets/z2smb1.pdf; Description_: 2000mW Zener Diode, SMB(DO-214AA); ki_keywords: zener diode
pins: 1 K, 2 A

## Z3SMCxxx
designator *  value Z3SMCxxx  Reference: D
3000mW Zener Diode, SMC(DO-214AB); ki_fp_filters: D?SMC*; Footprint: Diode_SMD:D_SMC; Datasheet: https://diotec.com/tl_files/diotec/files/pdf/datasheets/z3smc1.pdf; Description_: 3000mW Zener Diode, SMC(DO-214AB); ki_keywords: zener diode
pins: 1 K, 2 A

## ZMDxx
designator *  value ZMDxx  Reference: D
1000mW Zener Diode, MiniMELF; ki_fp_filters: D*MiniMELF*; Footprint: Diode_SMD:D_MiniMELF; Datasheet: http://diotec.com/tl_files/diotec/files/pdf/datasheets/zmd1; Description_: 1000mW Zener Diode, MiniMELF; ki_keywords: zener diode
pins: 1 K, 2 A

## ZMMxx
designator *  value ZMMxx  Reference: D
500mW Zener Diode, MiniMELF; ki_fp_filters: D*MiniMELF*; Footprint: Diode_SMD:D_MiniMELF; Datasheet: https://diotec.com/tl_files/diotec/files/pdf/datasheets/zmm1.pdf; Description_: 500mW Zener Diode, MiniMELF; ki_keywords: zener diode
pins: 1 K, 2 A

## ZMYxx
designator *  value ZMYxx  Reference: D
1300mW Zener Diode, MELF; ki_fp_filters: D*MELF*; Footprint: Diode_SMD:D_MELF; Datasheet: https://www.vishay.com/docs/85788/zmy3v9.pdf; Description_: 1300mW Zener Diode, MELF; ki_keywords: zener diode
pins: 1 K, 2 A

## ZPDxx
designator *  value ZPDxx  Reference: D
500mW Zener Diode, DO-35; ki_fp_filters: D*DO?35*; Footprint: Diode_THT:D_DO-35_SOD27_P10.16mm_Horizontal; Datasheet: http://diotec.com/tl_files/diotec/files/pdf/datasheets/zpd1; Description_: 500mW Zener Diode, DO-35; ki_keywords: zener diode
pins: 1 K, 2 A

## ZPYxx
designator *  value ZPYxx  Reference: D
1300mW Zener Diode, DO-41; ki_fp_filters: D*DO?41*; Footprint: Diode_THT:D_DO-41_SOD81_P10.16mm_Horizontal; Datasheet: http://www.vishay.com/docs/85790/zpy3v9.pdf; Description_: 1300mW Zener Diode, DO-41; ki_keywords: zener diode
pins: 1 K, 2 A

## ZYxxx
designator *  value ZYxxx  Reference: D
2000mW Zener Diode, DO-41; ki_fp_filters: D*DO?41*; Footprint: Diode_THT:D_DO-41_SOD81_P10.16mm_Horizontal; Datasheet: https://diotec.com/tl_files/diotec/files/pdf/datasheets/zy1; Description_: 2000mW Zener Diode, DO-41; ki_keywords: zener diode
pins: 1 K, 2 A